# Altium schematic symbol library UD24121G-AG6-R.SchLib: 1 symbol
Pins are listed as number, name and electrical type; pins without a type are passive.

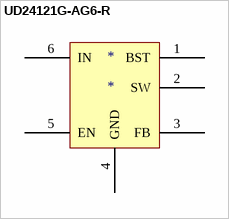
[diagram p0: symbol UD24121G-AG6-R]

## UD24121G-AG6-R
designator *
footprint SOT95P245X110-6N (SOT23, 6-Leads, Body 2,90x2,45mm, Pitch 0,95mm, IPC Medium Density)
pins: 1 BST, 2 SW, 3 FB, 4 GND, 5 EN, 6 IN